# Altium schematic symbol library Sensor_Voltage.SchLib: 1 symbol
Pins are listed as number, name and electrical type; pins without a type are passive.

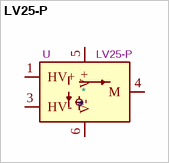
[diagram p0: symbol LV25-P]

## LV25-P
designator *  value LV25-P  Reference: U
ki_keywords: Voltage transducer; ki_description: LEM Voltage transducer LV 25-P; ki_fp_filters: LEM?LV25?P*; Footprint: Sensor_Voltage:LEM_LV25-P; Datasheet: https://www.lem.com/sites/default/files/products_datasheets/lv_25-p.pdf
pins: 1 HV+, 3 HV-, 4 M, 5 V+, 6 V-